# Altium schematic symbol library Switch.SchLib: 3 symbols
Pins are listed as number, name and electrical type; pins without a type are passive.

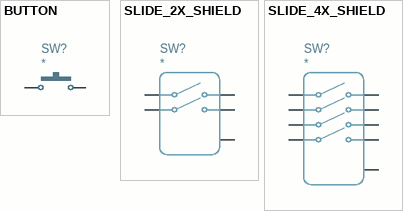
[diagram p0: symbols BUTTON to SLIDE_4X_SHIELD]

## BUTTON
designator SW?
pins: 1, 2

## SLIDE_2X_SHIELD
designator SW?
pins: 1, 2, 3, 4, P

## SLIDE_4X_SHIELD
designator SW?
pins: 1, 2, 3, 4, 5, 6, 7, 8, P